# EAGLE library part EURO_POWER_HEADER (library dadamachines)
Power Header 10 pin power header for Eurorack Power Supplies Variants with fatter pads for easier soldering, and the LOCK variant which has 5mil offset pins to hold the component in place before soldering
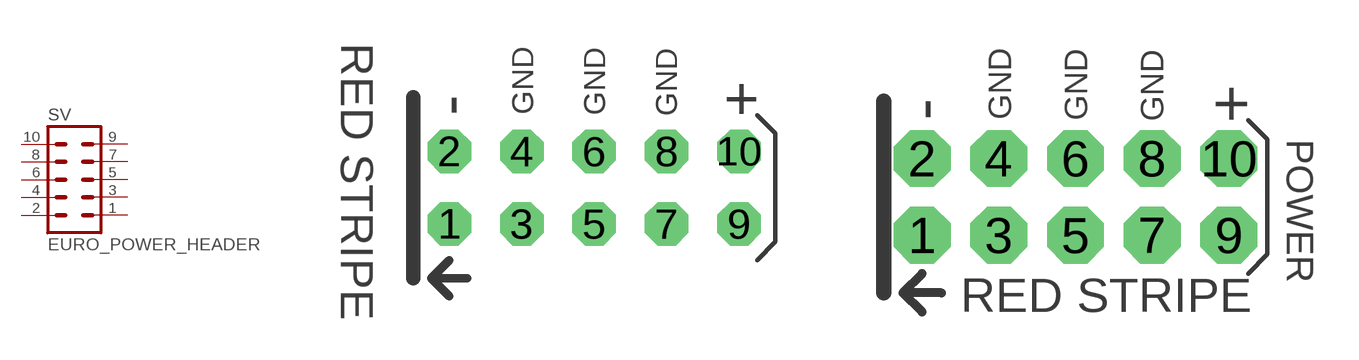
[diagram p16: symbol with the pads of EURO_POWER_HEADER; footprints EURO_POWER_HEADER, EURO_PWR_HEADER_FAT]

Designator prefix SV

## EURO_POWER_HEADERREGULAR  [EURO_POWER_HEADER]
1  1  pas
2  2  pas
3  3  pas
4  4  pas
5  5  pas
6  6  pas
7  7  pas
8  8  pas
9  9  pas
10  10  pas

## EURO_POWER_HEADERFAT_PADS  [EURO_PWR_HEADER_FAT]
Pads as for EURO_POWER_HEADER

## EURO_POWER_HEADERLOCK_PADS  [EURO_PWR_HEADER_LOCK]
GND1  4  pas
GND2  3  pas
GND3  6  pas
GND4  5  pas
GND5  8  pas
GND6  7  pas
NEG1  2  pas
NEG2  1  pas
POS1  10  pas
POS2  9  pas

## Footprint EURO_POWER_HEADER (pad centres in mm)
Eurorack Modular Synth 5 x 2 power header
drill 1.016 octagon: 1 -5.08,-1.27; 2 -5.08,1.27; 3 -2.54,-1.27; 4 -2.54,1.27; 5 0,-1.27; 6 0,1.27; 7 2.54,-1.27; 8 2.54,1.27; 9 5.08,-1.27; 10 5.08,1.27

## Footprint EURO_PWR_HEADER_FAT (pad centres in mm)
Eurorack Modular Synth 5 x 2 power header, fat pads
drill 1.016 pad 1.88 octagon: 1 -5.08,-1.27; 2 -5.08,1.27; 3 -2.54,-1.27; 4 -2.54,1.27; 5 0,-1.27; 6 0,1.27; 7 2.54,-1.27; 8 2.54,1.27; 9 5.08,-1.27; 10 5.08,1.27

## Footprint EURO_PWR_HEADER_LOCK (pad centres in mm)
Eurorack Modular Synth 5 x 2 power header, fat pads and offset pins for easier soldering
drill 1.016 pad 1.88 octagon: GND1 -2.54,1.143; GND2 -2.54,-1.397; GND3 0,1.397; GND4 0,-1.143; GND5 2.54,1.143; GND6 2.54,-1.397; NEG1 -5.08,1.397; NEG2 -5.08,-1.143; POS1 5.08,1.397; POS2 5.08,-1.143